# Altium footprint library 专用A.PcbLib: 94 footprints (part 2 of 6)
Each footprint in its own frame and in the unit in brackets; x right, y up, seen from the top. Pads: shape width x height; smd on the part's side, far side on the other; paste and mask are expansions set on the pad; w line width, h text height; cw(c..) or ccw(c..) is an arc to the next point about the centre after c.
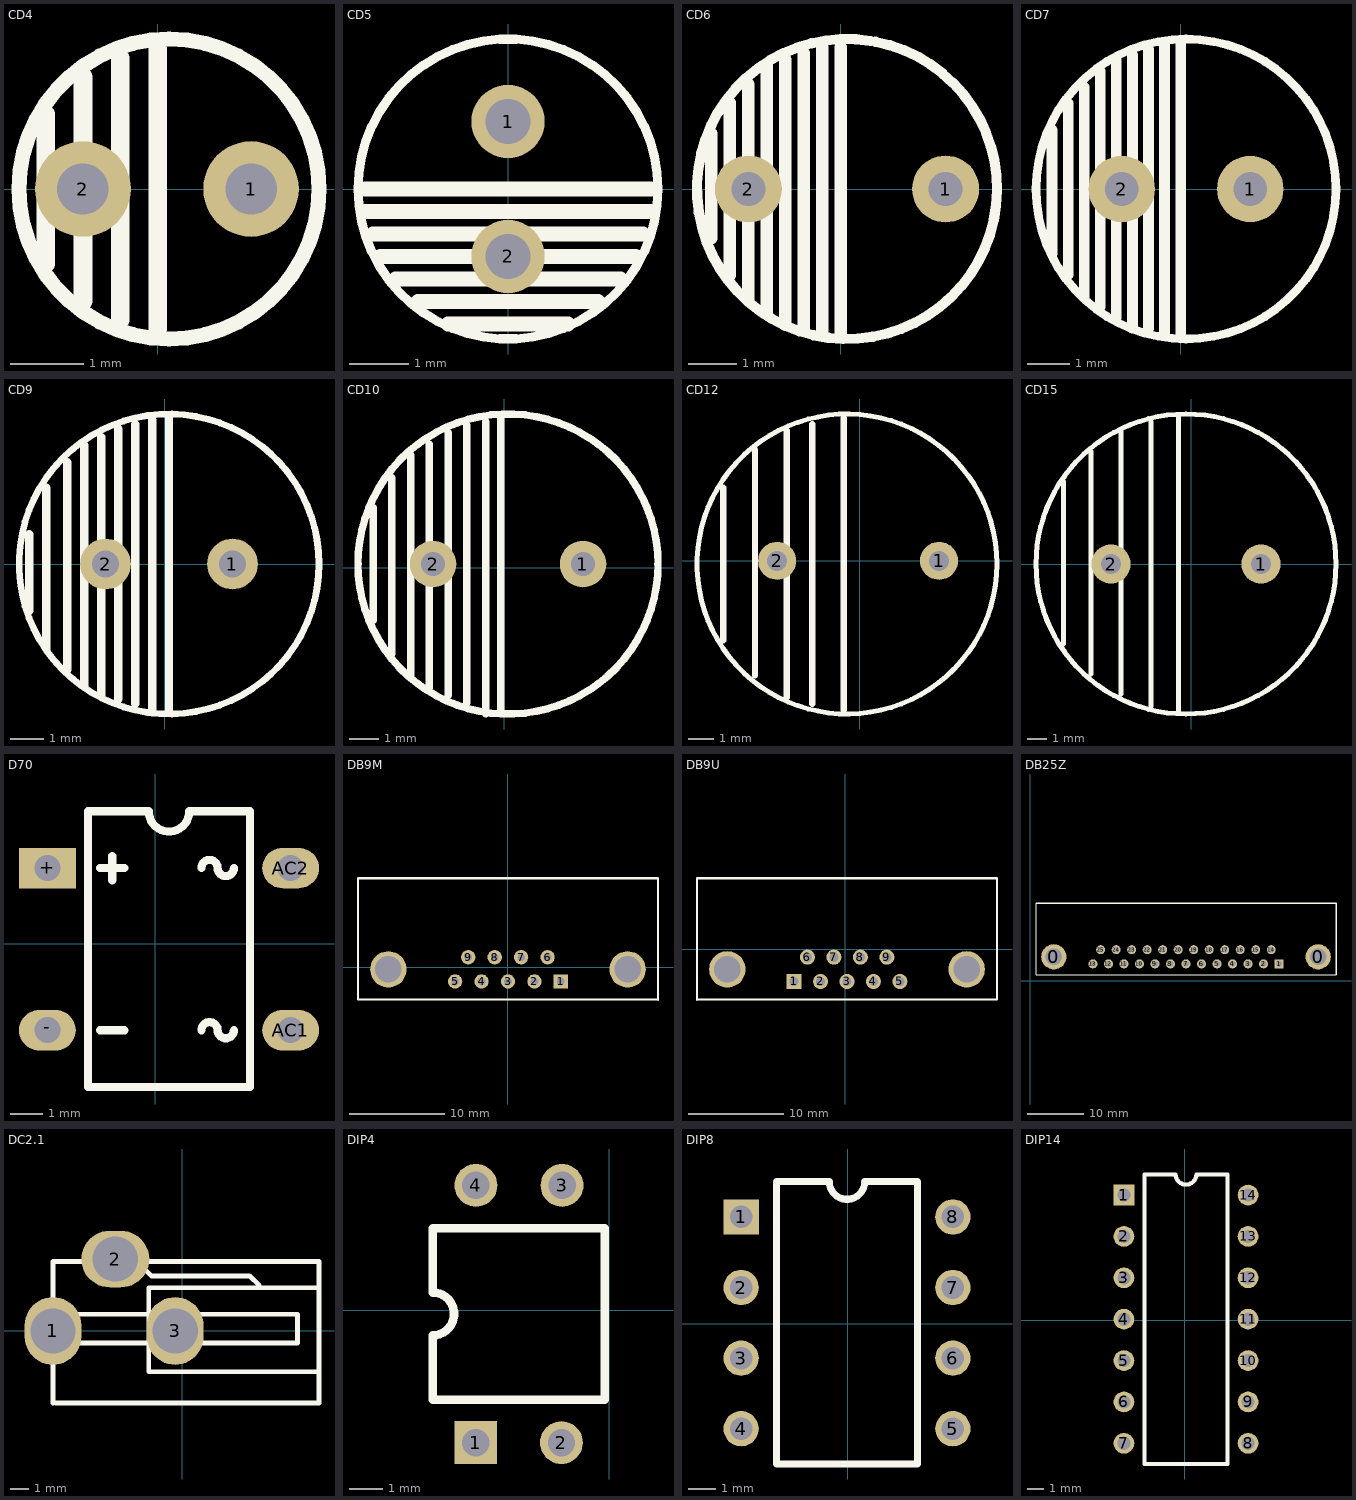
[diagram p1: the footprints below, top view; thin cyan lines are the x and y axes]

## CD4 [mm]
pads (2):
  round 1.3 hole 0.7: 1(1.27,0) 2(-1.016,0)
TopOverlay:
  circle w0.203: c0.154,0 r2.04
  lines w0.254: -1.524,-1.016 -1.524,1.016 ; -1.016,-1.524 -1.016,1.524 ; -0.508,-1.778 -0.508,1.778 ; 0,-1.905 0,1.905

## CD5 [mil]
pads (2):
  round 48.82 hole 30: 1(0,45) 2(0,-45)
TopOverlay:
  circle w6.06: c0,0 r100
  lines w10: -95,-15 95,-15 ; -95,0 95,0 ; -90,-30 90,-30 ; -85,-45 85,-45 ; -75,-60 75,-60 ; -60,-75 60,-75 ; -40,-90 40,-90

## CD6 [mm]
pads (2):
  round 1.38 hole 0.7: 1(2.159,0) 2(-1.905,0)
TopOverlay:
  lines w0.21: 0.61,3.052 ccw(c0.127,0) 0.717,3.033
  lines w0.254: -2.667,-1.016 -2.667,1.143 ; -2.286,-1.778 -2.286,1.778 ; -1.905,-2.286 -1.905,2.159 ; -1.524,-2.54 -1.524,2.54 ; -1.143,-2.794 -1.143,2.667 ; -0.762,-2.921 -0.762,2.794 ; -0.381,-2.921 -0.381,2.921 ; 0,-3.048 0,2.921

## CD7 [mil]
pads (2):
  round 62 hole 31.5: 1(65,0) 2(-55,0)
TopOverlay:
  circle w8: c5,0 r140
  lines w10: -120,-60 -120,55 ; -105,-80 -105,80 ; -90,-100 -90,95 ; -75,-110 -75,110 ; -60,-120 -60,120 ; -45,-130 -45,125 ; -30,-130 -30,130 ; -15,-135 -15,135 ; 0,-135 0,135

## CD9 [mil]
pads (2):
  round 60 hole 31.5: 1(80,0) 2(-70,0)
TopOverlay:
  circle w7.87: c5,0 r177.17
  lines w10: -160,-55 -160,35 ; -140,-100 -140,90 ; -115,-125 -115,120 ; -95,-145 -95,140 ; -75,-155 -75,150 ; -55,-160 -55,160 ; -35,-165 -35,165 ; -15,-175 -15,170 ; 5,-175 5,175

## CD10 [mil]
pads (2):
  round 62 hole 31.5: 1(105,5) 2(-95,5)
TopOverlay:
  circle w10: c5,5 r200
  lines w10: -175,-70 -175,80 ; -150,-115 -150,120 ; -125,-145 -125,150 ; -100,-160 -100,165 ; -75,-170 -75,180 ; -50,-180 -50,190 ; -25,-195 -25,195 ; -5,-195 -5,200

## CD12 [mil]
pads (2):
  round 60 hole 31.5: 1(125,0) 2(-130,0)
TopOverlay:
  circle w7.87: c-20,-5 r236.22
  lines w10: -215,-125 -215,115 ; -165,-180 -165,175 ; -115,-215 -115,205 ; -75,-225 -75,215 ; -25,-235 -25,225

## CD15 [mm]
pads (2):
  round 2 hole 1: 1(3.556,0) 2(-4.064,0)
TopOverlay:
  circle w0.254: c-0.254,0 r7.62
  lines w0.254: -6.477,-4.064 -6.477,4.191 ; -5.08,-5.588 -5.08,5.715 ; -3.556,-6.604 -3.556,6.731 ; -2.032,-7.239 -2.032,7.239 ; -0.635,-7.493 -0.635,7.493

## D70 [mil]
pads (4):
  rect 70x50 hole 32: +(-133.07,93.07)
  oval 70x50 hole 32: -(-133.07,-106.93) AC1(166.93,-106.93) AC2(166.93,93.07)
TopOverlay:
  lines w10: -68.07,-106.93 -38.07,-106.93 ; -68.07,93.07 -38.07,93.07 ; -53.07,78.07 -53.07,108.07 ; 56.93,-106.93 cw(c66.93,-106.93) 76.93,-106.93 ccw(c86.93,-106.93) 96.93,-106.93 ; 56.93,93.07 cw(c66.93,93.07) 76.93,93.07 ccw(c86.93,93.07) 96.93,93.07 ; -83.07,-176.93 116.93,-176.93 116.93,163.07 41.93,163.07 cw(c16.93,163.07) -8.07,163.07 -83.07,163.07 -83.07,-176.93

## DB9M [mm]
pads (11):
  rect 1.5x1.5 hole 0.8: 1(5.554,-1.474)
  round 1.5 hole 0.8: 2(2.785,-1.474) 3(0.017,-1.474) 4(-2.752,-1.474) 5(-5.52,-1.474) 6(4.157,1.066) 7(1.388,1.066) 8(-1.38,1.066) 9(-4.149,1.066)
  round 3.8 hole 2.8: ""(-12.505,-0.204) ""(12.539,-0.204)
TopOverlay:
  lines w0.203: -15.68,9.321 -15.68,-3.379 15.714,-3.379
  lines w0.254: -15.68,9.321 15.714,9.321 15.714,-3.379

## DB9U [mil]
pads (11):
  rect 62x62 hole 38: 1(-211.81,-133.23)
  round 62 hole 38: 2(-102.81,-133.23) 3(6.19,-133.23) 4(115.19,-133.23) 5(224.19,-133.23) 6(-156.81,-33.23) 7(-47.81,-33.23) 8(61.19,-33.23) 9(170.19,-33.23)
  round 150 hole 110: ""(-486.81,-83.23) ""(499.19,-83.23)
TopOverlay:
  lines w8: -611.81,-208.23 624.19,-208.23 624.19,291.77
  lines w10: -611.81,-208.23 -611.81,291.77 624.19,291.77

## DB25Z [mm]
pads (27):
  round 4.5 hole 3: 0(4.218,4.284) 0(51.411,4.284)
  rect 1.6x1.6 hole 1: 1(44.426,3.014)
  round 1.6 hole 1: 2(41.657,3.014) 3(38.889,3.014) 4(36.12,3.014) 5(33.352,3.014) 6(30.583,3.014) 7(27.814,3.014) 8(25.046,3.014) 9(22.277,3.014) 10(19.509,3.014) 11(16.74,3.014) 12(13.971,3.014) 13(11.203,3.014) 14(43.029,5.554) 15(40.26,5.554) 16(37.492,5.554) 17(34.723,5.554) 18(31.955,5.554) 19(29.186,5.554) 20(26.417,5.554) 21(23.649,5.554) 22(20.88,5.554) 23(18.112,5.554) 24(15.343,5.554) 25(12.574,5.554)
TopOverlay:
  lines w0.203: 1.043,13.809 1.043,1.109 54.586,1.109
  lines w0.254: 1.043,13.809 54.586,13.809 54.586,1.109

## DC2.1 [mm]
pads (3):
  oval 3x3.6 hole 2.4: 1(-6.858,0) 3(-0.381,0)
  oval 3.6x3 hole 2.4: 2(-3.556,3.81)
TopOverlay:
  lines w0.254: -6.858,-3.81 -6.858,3.683 7.239,3.683 7.239,-3.81 -6.731,-3.81 ; -6.858,-0.508 -6.731,-0.635 6.096,-0.635 6.096,0.889 -6.858,0.889 ; -2.286,3.556 -1.651,2.921 3.556,2.921 4.064,2.413 ; 7.239,-2.159 -1.778,-2.159 -1.778,2.286 7.239,2.286

## DIP4 [mil]
pads (4):
  rect 50x50 hole 32: 1(-155.68,-154.68)
  round 50 hole 32: 2(-55.68,-154.68) 3(-55,145.5) 4(-155.5,145.5)
TopOverlay:
  lines w10: -206,-29.5 ccw(c-206,-4.5) -206,20.5 ; -205.68,-29.68 -205.68,-104.68 -5.18,-104.68 -5.18,95.32 -205.68,95.32 -205.68,20.32

## DIP8 [mm]
pads (8):
  rect 1.27x1.27 hole 0.813: 1(-3.84,3.84)
  round 1.27 hole 0.813: 2(-3.84,1.3) 3(-3.84,-1.24) 4(-3.84,-3.78) 5(3.78,-3.78) 6(3.78,-1.24) 7(3.78,1.3) 8(3.78,3.84)
TopOverlay:
  lines w0.254: -2.57,-5.05 2.51,-5.05 2.51,5.11 0.605,5.11 cw(c-0.03,5.11) -0.665,5.11 -2.57,5.11 -2.57,-5.05

## DIP14 [mil]
pads (14):
  rect 50x50 hole 32: 1(-146.93,302.13)
  round 50 hole 32: 2(-146.93,202.13) 3(-146.93,102.13) 4(-146.93,2.13) 5(-146.93,-97.87) 6(-146.93,-197.87) 7(-146.93,-297.87) 8(153.07,-297.87) 9(153.07,-197.87) 10(153.07,-97.87) 11(153.07,2.13) 12(153.07,102.13) 13(153.07,202.13) 14(153.07,302.13)
TopOverlay:
  lines w10: -96.93,-347.87 103.07,-347.87 103.07,352.13 28.07,352.13 cw(c3.07,352.13) -21.93,352.13 -96.93,352.13 -96.93,-347.87